# EAGLE library part ESP8285H16 (library ESP8285H16)
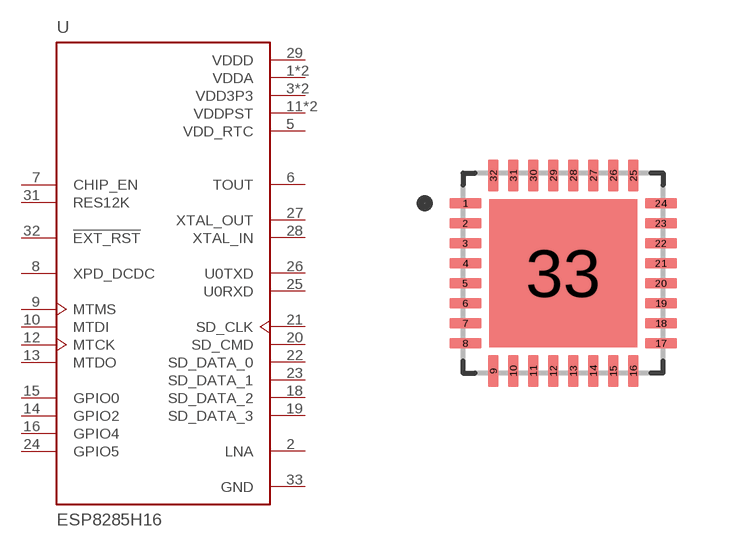
[diagram p0: symbol with the pads of QFN50P500X500X90-33N; footprint QFN50P500X500X90-33N]

Designator prefix U

## ESP8285H16 (A_MAX: 0.9; B_MAX: 0.3; B_MIN: 0.2; B_NOM: 0.25; D2_NOM: 3.7; D_MAX: 5.05; D_MIN: 4.95; D_NOM: 5.0; E2_NOM: 3.7; ENOM: 0.5; E_MAX: 5.05; E_MIN: 4.95; E_NOM: 5.0; L_MAX: 0.45; L_MIN: 0.35; L_NOM: 0.4; MANUFACTURER: Espressif; PARTREV: 2.0; PIN_COUNT_D: 8.0; PIN_COUNT_E: 8.0; STANDARD: IPC 7351B)  [QFN50P500X500X90-33N]
1  VDDA  pwr
2  LNA
3  VDD3P3  pwr
4  VDD3P3  pwr
5  VDD_RTC  pwr
6  TOUT  out
7  CHIP_EN  in
8  XPD_DCDC
9  MTMS
10  MTDI
11  VDDPST  pwr
12  MTCK
13  MTDO
14  GPIO2
15  GPIO0
16  GPIO4
17  VDDPST  pwr
18  SD_DATA_2
19  SD_DATA_3
20  SD_CMD
21  SD_CLK
22  SD_DATA_0
23  SD_DATA_1
24  GPIO5
25  U0RXD
26  U0TXD
27  XTAL_OUT  out
28  XTAL_IN  in
29  VDDD  pwr
30  VDDA  pwr
31  RES12K  in
32  !EXT_RST  in
33  GND  pwr

## Footprint QFN50P500X500X90-33N (pad centres in mm)
smd 0.81 x 0.27: 1 -2.445,1.75; 2 -2.445,1.25; 3 -2.445,0.75; 4 -2.445,0.25; 5 -2.445,-0.25; 6 -2.445,-0.75; 7 -2.445,-1.25; 8 -2.445,-1.75; 17 2.445,-1.75; 18 2.445,-1.25; 19 2.445,-0.75; 20 2.445,-0.25; 21 2.445,0.25; 22 2.445,0.75; 23 2.445,1.25; 24 2.445,1.75
smd 0.27 x 0.81: 9 -1.75,-2.445; 10 -1.25,-2.445; 11 -0.75,-2.445; 12 -0.25,-2.445; 13 0.25,-2.445; 14 0.75,-2.445; 15 1.25,-2.445; 16 1.75,-2.445; 25 1.75,2.445; 26 1.25,2.445; 27 0.75,2.445; 28 0.25,2.445; 29 -0.25,2.445; 30 -0.75,2.445; 31 -1.25,2.445; 32 -1.75,2.445
smd 3.7 x 3.7: 33 0,0